# Altium integrated library SparkFun-Clocks.Library.IntLib: 60 symbols
Pins are listed as number, name and electrical type; pins without a type are passive.

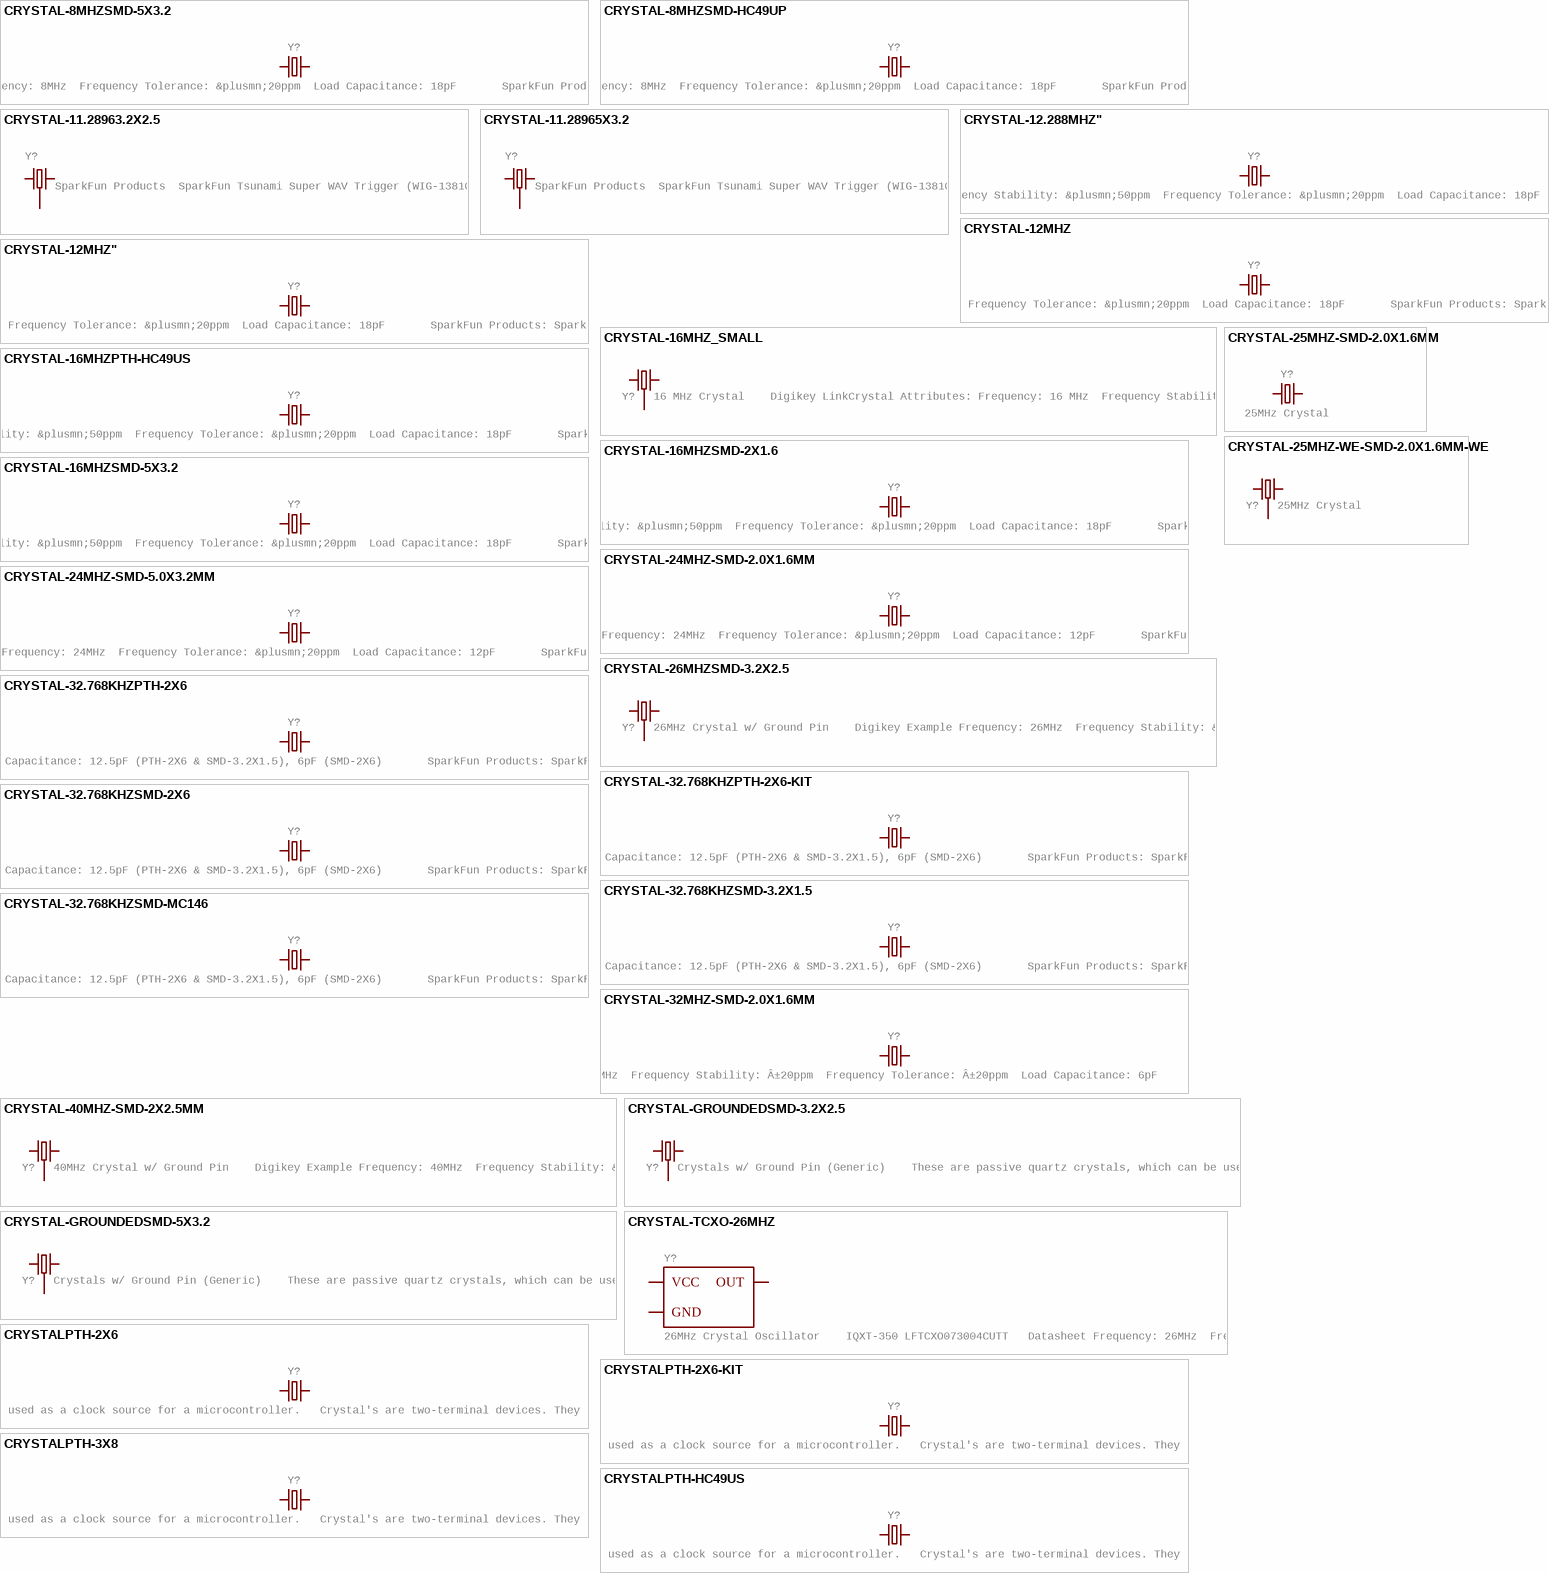
[diagram p0: symbols CRYSTAL-8MHZSMD-5X3.2 to CRYSTALPTH-HC49US]

## CRYSTAL-8MHZSMD-5X3.2
designator Y?, comment 8MHz Crystal    Datasheet Example Frequency: 8MHz  Frequency Tolerance: &plusmn;20ppm  Load Capacitance: 18pF       SparkFun Products: Pro Micro -3.3V/8MHz  WAV Trigger
GateName_1: G$1; DeviceName: SMD-5X3.2; DeviceSetName: CRYSTAL-8MHZ; PROD_ID: XTAL-09431; SymbolName_1: CRYSTAL; LibraryName: SparkFun-Clocks; Package: CRYSTAL-SMD-5X3.2-4PAD
footprint CRYSTAL-SMD-5X3.2-4PAD
pins: 1, 3 2

## CRYSTAL-8MHZSMD-HC49UP
designator Y?, comment 8MHz Crystal    Datasheet Example Frequency: 8MHz  Frequency Tolerance: &plusmn;20ppm  Load Capacitance: 18pF       SparkFun Products: Pro Micro -3.3V/8MHz  WAV Trigger
GateName_1: G$1; DeviceName: SMD-HC49UP; DeviceSetName: CRYSTAL-8MHZ; PROD_ID: XTAL-11706; SymbolName_1: CRYSTAL; LibraryName: SparkFun-Clocks; Package: HC49UP
footprint HC49UP
pins: 1, 2

## CRYSTAL-11.28963.2X2.5
designator Y?, comment SparkFun Products  SparkFun Tsunami Super WAV Trigger (WIG-13810)
MFR: GEYER; MRFPART: 12.60421; GateName_1: G$1; SymbolName_1: CRYSTAL-GND-1; DeviceName: 3.2X2.5; DeviceSetName: CRYSTAL-11.2896; MODEL: KX-7T; PROD_ID: XTAL-16991; LibraryName: SparkFun-Clocks; Package: CRYSTAL-SMD-3.2X2.5MM_GEYER_12.60421
footprint CRYSTAL-SMD-3.2X2.5MM_GEYER_12.60421
pins: 1, 2,4 3, 3 2

## CRYSTAL-11.28965X3.2
designator Y?, comment SparkFun Products  SparkFun Tsunami Super WAV Trigger (WIG-13810)
DKPART: 887-2353-1-ND; MFR: txc; MFRPART: 7B-11.2896MAAE-T; GateName_1: G$1; SymbolName_1: CRYSTAL-GND-1; DeviceName: 5X3.2; DeviceSetName: CRYSTAL-11.2896; PROD_ID: XTAL-13463; LibraryName: SparkFun-Clocks; Package: CRYSTAL-OSC-SMD-5X3
footprint CRYSTAL-OSC-SMD-5X3
pins: 1, 2,4 3, 3 2

## CRYSTAL-12.288MHZ"
designator Y?, comment 12.288MHz Crystal    Digikey Example Frequency: 12.288MHz  Frequency Stability: &plusmn;50ppm  Frequency Tolerance: &plusmn;20ppm  Load Capacitance: 18pF       SparkFun Products: MP3 Trigger  SparkFun MP3 Player Shield
GateName_1: G$1; DeviceName: "; DeviceSetName: CRYSTAL-12.288MHZ; PROD_ID: XTAL-09653; SymbolName_1: CRYSTAL; LibraryName: SparkFun-Clocks; Package: CRYSTAL-SMD-5X3.2-4PAD
footprint CRYSTAL-SMD-5X3.2-4PAD
pins: 1, 3 2

## CRYSTAL-12MHZ
designator Y?, comment 12.0MHz Crystal  Frequency: 12.0MHz  Frequency Tolerance: &plusmn;20ppm  Load Capacitance: 18pF       SparkFun Products: SparkFun Logomatic  Pocket AVR Programmer
GateName_1: G$1; DeviceSetName: CRYSTAL-12MHZ; PROD_ID: XTAL-15540; SymbolName_1: CRYSTAL; LibraryName: SparkFun-Clocks; Package: CRYSTAL-SMD-2X2.5MM
footprint CRYSTAL-SMD-2X2.5MM
pins: P1 1, P3 2

## CRYSTAL-12MHZ"
designator Y?, comment 12.0MHz Crystal  Frequency: 12.0MHz  Frequency Tolerance: &plusmn;20ppm  Load Capacitance: 18pF       SparkFun Products: SparkFun Logomatic  Pocket AVR Programmer
GateName_1: G$1; DeviceName: "; DeviceSetName: CRYSTAL-12MHZ; PROD_ID: XTAL-08297; SymbolName_1: CRYSTAL; LibraryName: SparkFun-Clocks; Package: CRYSTAL-SMD-5X3.2-4PAD
footprint CRYSTAL-SMD-5X3.2-4PAD
pins: 1, 3 2

## CRYSTAL-16MHZ_SMALL
designator Y?, comment 16 MHz Crystal    Digikey LinkCrystal Attributes: Frequency: 16 MHz  Frequency Stability: +/- 10ppm  Frequency Tolerance: +/- 10ppm  Load Capacitance: 8pF  ESR: 80 Ohms  Operating Mode: Fundamental  PAD 2 and PAD 4 are GROUNDED
GateName_1: G$1; SymbolName_1: CRYSTAL-GND; DeviceSetName: CRYSTAL-16MHZ_SMALL; PROD_ID: XTAL-14664; LibraryName: SparkFun-Clocks; Package: CRYSTAL-SMD-2X2.5MM
footprint CRYSTAL-SMD-2X2.5MM
pins: P1 1, P2,4 GND (power), P3 2

## CRYSTAL-16MHZPTH-HC49US
designator Y?, comment 16MHz Crystal    Digikey Example Frequency: 16MHz  Frequency Stability: &plusmn;50ppm  Frequency Tolerance: &plusmn;20ppm  Load Capacitance: 18pF       SparkFun Products: Pro Micro -5V/16MHz  SparkFun Serial Enabled LCD Kit
GateName_1: G$1; DeviceName: PTH-HC49US; DeviceSetName: CRYSTAL-16MHZ; PROD_ID: XTAL-08181; SF_ID: COM-00536; SymbolName_1: CRYSTAL; LibraryName: SparkFun-Clocks; Package: HC49US
footprint HC49US
pins: 1, 2

## CRYSTAL-16MHZSMD-2X1.6
designator Y?, comment 16MHz Crystal    Digikey Example Frequency: 16MHz  Frequency Stability: &plusmn;50ppm  Frequency Tolerance: &plusmn;20ppm  Load Capacitance: 18pF       SparkFun Products: Pro Micro -5V/16MHz  SparkFun Serial Enabled LCD Kit
GateName_1: G$1; DeviceName: SMD-2X1.6; DeviceSetName: CRYSTAL-16MHZ; PROD_ID: XTAL-14681; SymbolName_1: CRYSTAL; LibraryName: SparkFun-Clocks; Package: CRYSTAL-SMD-2.0X1.6MM
footprint CRYSTAL-SMD-2.0X1.6MM
pins: 1, 3 2

## CRYSTAL-16MHZSMD-5X3.2
designator Y?, comment 16MHz Crystal    Digikey Example Frequency: 16MHz  Frequency Stability: &plusmn;50ppm  Frequency Tolerance: &plusmn;20ppm  Load Capacitance: 18pF       SparkFun Products: Pro Micro -5V/16MHz  SparkFun Serial Enabled LCD Kit
GateName_1: G$1; DeviceName: SMD-5X3.2; DeviceSetName: CRYSTAL-16MHZ; PROD_ID: XTAL-08218; SF_ID: COM-00094; SymbolName_1: CRYSTAL; LibraryName: SparkFun-Clocks; Package: CRYSTAL-SMD-5X3.2-4PAD
footprint CRYSTAL-SMD-5X3.2-4PAD
pins: 1, 3 2

## CRYSTAL-24MHZ-SMD-2.0X1.6MM
designator Y?, comment 24MHz Crystal    Datasheet Frequency: 24MHz  Frequency Tolerance: &plusmn;20ppm  Load Capacitance: 12pF       SparkFun Products: USB Bit Whacker
GateName_1: G$1; DeviceName: -SMD-2.0X1.6MM; DeviceSetName: CRYSTAL-24MHZ; PROD_ID: XTAL-14845; SymbolName_1: CRYSTAL; LibraryName: SparkFun-Clocks; Package: CRYSTAL-SMD-2.0X1.6MM
footprint CRYSTAL-SMD-2.0X1.6MM
pins: 1, 3 2

## CRYSTAL-24MHZ-SMD-5.0X3.2MM
designator Y?, comment 24MHz Crystal    Datasheet Frequency: 24MHz  Frequency Tolerance: &plusmn;20ppm  Load Capacitance: 12pF       SparkFun Products: USB Bit Whacker
GateName_1: G$1; DeviceName: -SMD-5.0X3.2MM; DeviceSetName: CRYSTAL-24MHZ; PROD_ID: XTAL-08298; SF_ID: COM-08581; SymbolName_1: CRYSTAL; LibraryName: SparkFun-Clocks; Package: CRYSTAL-SMD-5X3.2-4PAD
footprint CRYSTAL-SMD-5X3.2-4PAD
pins: 1, 3 2

## CRYSTAL-25MHZ-SMD-2.0X1.6MM
designator Y?, comment 25MHz Crystal
GateName_1: Y1; DeviceName: -SMD-2.0X1.6MM; DeviceSetName: CRYSTAL-25MHZ; PROD_ID: XTAL-16235; SymbolName_1: CRYSTAL; LibraryName: SparkFun-Clocks; Package: CRYSTAL-SMD-2.0X1.6MM
footprint CRYSTAL-SMD-2.0X1.6MM
pins: 1, 3 2

## CRYSTAL-25MHZ-WE-SMD-2.0X1.6MM-WE
designator Y?, comment 25MHz Crystal
GateName_1: G$1; SymbolName_1: CRYSTAL-GND; DeviceName: -SMD-2.0X1.6MM-WE; DeviceSetName: CRYSTAL-25MHZ-WE; PROD_ID: XTAL-16515; LibraryName: SparkFun-Clocks; Package: CRYSTAL-SMD-2.0X1.6MM-WE
footprint CRYSTAL-SMD-2.0X1.6MM-WE
pins: 1, 2,4 GND (power), 3 2

## CRYSTAL-26MHZSMD-3.2X2.5
designator Y?, comment 26MHz Crystal w/ Ground Pin    Digikey Example Frequency: 26MHz  Frequency Stability: &plusmn;9ppm  Frequency Tolerance: &plusmn;10ppm  Load Capacitance: 9pF       SparkFun Products: SparkFun ESP32 Thing  SparkFun ESP8266 Thing Dev Board
GateName_1: G$1; SymbolName_1: CRYSTAL-GND; DeviceName: SMD-3.2X2.5; DeviceSetName: CRYSTAL-26MHZ; PROD_ID: XTAL-12454; LibraryName: SparkFun-Clocks; Package: CRYSTAL-SMD-3.2X2.5MM
footprint CRYSTAL-SMD-3.2X2.5MM
pins: 1, 2,4 GND (power), 3 2

## CRYSTAL-32.768KHZPTH-2X6
designator Y?, comment 32.768kHz Crystal  Frequency: 32.768kHz  Frequency Stability: &plusmn;20ppm  Load Capacitance: 12.5pF (PTH-2X6 & SMD-3.2X1.5), 6pF (SMD-2X6)       SparkFun Products: SparkFun BigTime Watch Kit  SparkFun nRF52832 Breakout  SparkFun Real Time Clock Module
GateName_1: G$1; DeviceSetName: CRYSTAL-32.768KHZ; PROD_ID: XTAL-10112; SymbolName_1: CRYSTAL; DeviceName: PTH-2X6; LibraryName: SparkFun-Clocks; Package: CRYSTAL-PTH-2X6-CYL
footprint CRYSTAL-PTH-2X6-CYL
pins: 1, 2

## CRYSTAL-32.768KHZPTH-2X6-KIT
designator Y?, comment 32.768kHz Crystal  Frequency: 32.768kHz  Frequency Stability: &plusmn;20ppm  Load Capacitance: 12.5pF (PTH-2X6 & SMD-3.2X1.5), 6pF (SMD-2X6)       SparkFun Products: SparkFun BigTime Watch Kit  SparkFun nRF52832 Breakout  SparkFun Real Time Clock Module
GateName_1: G$1; DeviceName: PTH-2X6-KIT; DeviceSetName: CRYSTAL-32.768KHZ; PROD_ID: XTAL-10112; SymbolName_1: CRYSTAL; LibraryName: SparkFun-Clocks; Package: CRYSTAL-PTH-2X6-CYL-KIT
footprint CRYSTAL-PTH-2X6-CYL-KIT
pins: 1, 2

## CRYSTAL-32.768KHZSMD-2X6
designator Y?, comment 32.768kHz Crystal  Frequency: 32.768kHz  Frequency Stability: &plusmn;20ppm  Load Capacitance: 12.5pF (PTH-2X6 & SMD-3.2X1.5), 6pF (SMD-2X6)       SparkFun Products: SparkFun BigTime Watch Kit  SparkFun nRF52832 Breakout  SparkFun Real Time Clock Module
GateName_1: G$1; DeviceSetName: CRYSTAL-32.768KHZ; PROD_ID: XTAL-07894; SymbolName_1: CRYSTAL; DeviceName: SMD-2X6; LibraryName: SparkFun-Clocks; Package: CRYSTAL-SMD-2X6-CYL
footprint CRYSTAL-SMD-2X6-CYL
pins: X1 1, X2 2

## CRYSTAL-32.768KHZSMD-3.2X1.5
designator Y?, comment 32.768kHz Crystal  Frequency: 32.768kHz  Frequency Stability: &plusmn;20ppm  Load Capacitance: 12.5pF (PTH-2X6 & SMD-3.2X1.5), 6pF (SMD-2X6)       SparkFun Products: SparkFun BigTime Watch Kit  SparkFun nRF52832 Breakout  SparkFun Real Time Clock Module
GateName_1: G$1; DeviceSetName: CRYSTAL-32.768KHZ; PROD_ID: XTAL-13062; SymbolName_1: CRYSTAL; DeviceName: SMD-3.2X1.5; LibraryName: SparkFun-Clocks; Package: CRYSTAL-SMD-3.2X1.5MM
footprint CRYSTAL-SMD-3.2X1.5MM
pins: P$1 1, P$2 2

## CRYSTAL-32.768KHZSMD-MC146
designator Y?, comment 32.768kHz Crystal  Frequency: 32.768kHz  Frequency Stability: &plusmn;20ppm  Load Capacitance: 12.5pF (PTH-2X6 & SMD-3.2X1.5), 6pF (SMD-2X6)       SparkFun Products: SparkFun BigTime Watch Kit  SparkFun nRF52832 Breakout  SparkFun Real Time Clock Module
GateName_1: G$1; DeviceName: SMD-MC146; DeviceSetName: CRYSTAL-32.768KHZ; PROD_ID: XTAL-09342; SymbolName_1: CRYSTAL; LibraryName: SparkFun-Clocks; Package: CRYSTAL-SMD-MC-146
footprint CRYSTAL-SMD-MC-146
pins: P$1 2, P$2 1

## CRYSTAL-32MHZ-SMD-2.0X1.6MM
designator Y?, comment 32MHz Crystal    Digikey Example Frequency: 32MHz  Frequency Stability: Â±20ppm  Frequency Tolerance: Â±20ppm  Load Capacitance: 6pF       SparkFun Products SparkFun nRF52832 Breakout
GateName_1: G$1; DeviceName: -SMD-2.0X1.6MM; DeviceSetName: CRYSTAL-32MHZ; PROD_ID: XTAL-13459; SymbolName_1: CRYSTAL; LibraryName: SparkFun-Clocks; Package: CRYSTAL-SMD-2.0X1.6MM
footprint CRYSTAL-SMD-2.0X1.6MM
pins: 1, 3 2

## CRYSTAL-40MHZ-SMD-2X2.5MM
designator Y?, comment 40MHz Crystal w/ Ground Pin    Digikey Example Frequency: 40MHz  Frequency Stability: &plusmn;10ppm  Frequency Tolerance: &plusmn;10ppm  Load Capacitance: 10pF
GateName_1: G$1; SymbolName_1: CRYSTAL-GND; DeviceName: -SMD-2X2.5MM; DeviceSetName: CRYSTAL-40MHZ; PROD_ID: XTAL-15127; LibraryName: SparkFun-Clocks; Package: CRYSTAL-SMD-2X2.5MM
footprint CRYSTAL-SMD-2X2.5MM
pins: P1 1, P2,4 GND (power), P3 2

## CRYSTAL-GROUNDEDSMD-3.2X2.5
designator Y?, comment Crystals w/ Ground Pin (Generic)    These are passive quartz crystals, which can be used as a clock source for a microcontroller.   Crystal's are usually two-terminal devices. A third terminal may be optionally connected to ground, as recommended by the manufaturer.
GateName_1: G$1; SymbolName_1: CRYSTAL-GND; DeviceName: SMD-3.2X2.5; DeviceSetName: CRYSTAL-GROUNDED; PROD_ID: XTAL-13518; LibraryName: SparkFun-Clocks; Package: CRYSTAL-SMD-3.2X2.5MM
footprint CRYSTAL-SMD-3.2X2.5MM
pins: 1, 2,4 GND (power), 3 2

## CRYSTAL-GROUNDEDSMD-5X3.2
designator Y?, comment Crystals w/ Ground Pin (Generic)    These are passive quartz crystals, which can be used as a clock source for a microcontroller.   Crystal's are usually two-terminal devices. A third terminal may be optionally connected to ground, as recommended by the manufaturer.
GateName_1: G$1; SymbolName_1: CRYSTAL-GND; DeviceName: SMD-5X3.2; DeviceSetName: CRYSTAL-GROUNDED; LibraryName: SparkFun-Clocks; Package: CRYSTAL-SMD-5X3.2-4PAD
footprint CRYSTAL-SMD-5X3.2-4PAD
pins: 1 2, 2,4 GND (power), 3 1

## CRYSTAL-TCXO-26MHZ
designator Y?, comment 26MHz Crystal Oscillator    IQXT-350 LFTCXO073004CUTT   Datasheet Frequency: 26MHz  Frequency Stability: &plusmn;0.50ppm  Frequency Tolerance: &plusmn;1.50ppm
GateName_1: G$1; SymbolName_1: CRYSTAL-TCXO; DeviceSetName: CRYSTAL-TCXO-26MHZ; PROD_ID: XTAL-15279; LibraryName: SparkFun-Clocks; Package: CRYSTAL-TCXO-SMD-1.65X1.25; MOUSER_PART: 449-LFTCXO073004CUTT
footprint CRYSTAL-TCXO-SMD-1.65X1.25
pins: 1,2 GND (io), 3 OUT (io), 4 VCC (io)

## CRYSTALPTH-2X6
designator Y?, comment Crystals (Generic)    These are passive quartz crystals, which can be used as a clock source for a microcontroller.   Crystal's are two-terminal devices. They require external "load" capacitors to generate an oscillating signal.
GateName_1: G$1; DeviceName: PTH-2X6; SymbolName_1: CRYSTAL; LibraryName: SparkFun-Clocks; DeviceSetName: CRYSTAL; Package: CRYSTAL-PTH-2X6-CYL
footprint CRYSTAL-PTH-2X6-CYL
pins: 1, 2

## CRYSTALPTH-2X6-KIT
designator Y?, comment Crystals (Generic)    These are passive quartz crystals, which can be used as a clock source for a microcontroller.   Crystal's are two-terminal devices. They require external "load" capacitors to generate an oscillating signal.
GateName_1: G$1; DeviceName: PTH-2X6-KIT; SymbolName_1: CRYSTAL; LibraryName: SparkFun-Clocks; DeviceSetName: CRYSTAL; Package: CRYSTAL-PTH-2X6-CYL-KIT
footprint CRYSTAL-PTH-2X6-CYL-KIT
pins: 1, 2

## CRYSTALPTH-3X8
designator Y?, comment Crystals (Generic)    These are passive quartz crystals, which can be used as a clock source for a microcontroller.   Crystal's are two-terminal devices. They require external "load" capacitors to generate an oscillating signal.
GateName_1: G$1; DeviceName: PTH-3X8; SymbolName_1: CRYSTAL; LibraryName: SparkFun-Clocks; DeviceSetName: CRYSTAL; Package: CRYSTAL-PTH-3X8-CYL
footprint CRYSTAL-PTH-3X8-CYL
pins: 1, 2

## CRYSTALPTH-HC49US
designator Y?, comment Crystals (Generic)    These are passive quartz crystals, which can be used as a clock source for a microcontroller.   Crystal's are two-terminal devices. They require external "load" capacitors to generate an oscillating signal.
GateName_1: G$1; DeviceName: PTH-HC49US; SymbolName_1: CRYSTAL; LibraryName: SparkFun-Clocks; DeviceSetName: CRYSTAL; Package: HC49US
footprint HC49US
pins: 1, 2

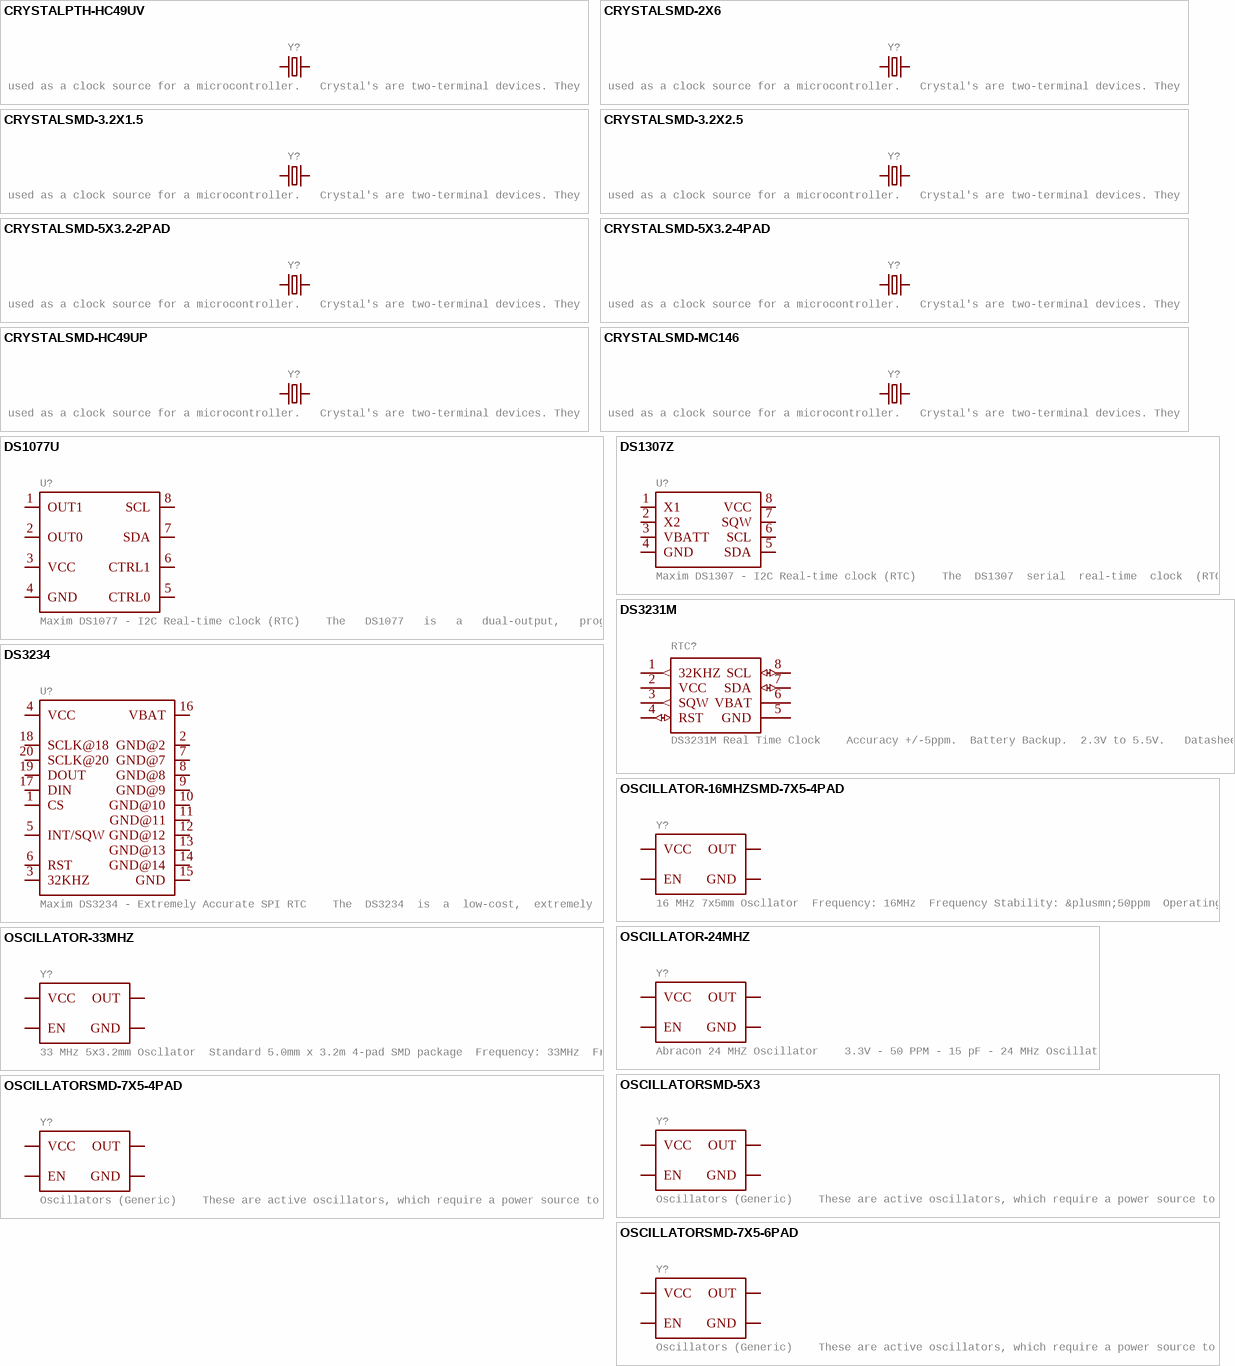
[diagram p1: symbols CRYSTALPTH-HC49UV to OSCILLATORSMD-7X5-6PAD]

## CRYSTALPTH-HC49UV
designator Y?, comment Crystals (Generic)    These are passive quartz crystals, which can be used as a clock source for a microcontroller.   Crystal's are two-terminal devices. They require external "load" capacitors to generate an oscillating signal.
GateName_1: G$1; DeviceName: PTH-HC49UV; SymbolName_1: CRYSTAL; LibraryName: SparkFun-Clocks; DeviceSetName: CRYSTAL; Package: HC49U
footprint HC49U
pins: 1, 2

## CRYSTALSMD-2X6
designator Y?, comment Crystals (Generic)    These are passive quartz crystals, which can be used as a clock source for a microcontroller.   Crystal's are two-terminal devices. They require external "load" capacitors to generate an oscillating signal.
GateName_1: G$1; DeviceName: SMD-2X6; SymbolName_1: CRYSTAL; LibraryName: SparkFun-Clocks; DeviceSetName: CRYSTAL; Package: CRYSTAL-SMD-2X6-CYL
footprint CRYSTAL-SMD-2X6-CYL
pins: X1 1, X2 2

## CRYSTALSMD-3.2X1.5
designator Y?, comment Crystals (Generic)    These are passive quartz crystals, which can be used as a clock source for a microcontroller.   Crystal's are two-terminal devices. They require external "load" capacitors to generate an oscillating signal.
GateName_1: G$1; DeviceName: SMD-3.2X1.5; SymbolName_1: CRYSTAL; LibraryName: SparkFun-Clocks; DeviceSetName: CRYSTAL; Package: CRYSTAL-SMD-3.2X1.5MM
footprint CRYSTAL-SMD-3.2X1.5MM
pins: P$1 1, P$2 2

## CRYSTALSMD-3.2X2.5
designator Y?, comment Crystals (Generic)    These are passive quartz crystals, which can be used as a clock source for a microcontroller.   Crystal's are two-terminal devices. They require external "load" capacitors to generate an oscillating signal.
GateName_1: G$1; DeviceName: SMD-3.2X2.5; SymbolName_1: CRYSTAL; LibraryName: SparkFun-Clocks; DeviceSetName: CRYSTAL; Package: CRYSTAL-SMD-3.2X2.5MM
footprint CRYSTAL-SMD-3.2X2.5MM
pins: 1, 3 2

## CRYSTALSMD-5X3.2-2PAD
designator Y?, comment Crystals (Generic)    These are passive quartz crystals, which can be used as a clock source for a microcontroller.   Crystal's are two-terminal devices. They require external "load" capacitors to generate an oscillating signal.
GateName_1: G$1; DeviceName: SMD-5X3.2-2PAD; SymbolName_1: CRYSTAL; LibraryName: SparkFun-Clocks; DeviceSetName: CRYSTAL; Package: CRYSTAL-SMD-5X3.2-2PAD
footprint CRYSTAL-SMD-5X3.2-2PAD
pins: P$1 1, P$2 2

## CRYSTALSMD-5X3.2-4PAD
designator Y?, comment Crystals (Generic)    These are passive quartz crystals, which can be used as a clock source for a microcontroller.   Crystal's are two-terminal devices. They require external "load" capacitors to generate an oscillating signal.
GateName_1: G$1; DeviceName: SMD-5X3.2-4PAD; SymbolName_1: CRYSTAL; LibraryName: SparkFun-Clocks; DeviceSetName: CRYSTAL; Package: CRYSTAL-SMD-5X3.2-4PAD
footprint CRYSTAL-SMD-5X3.2-4PAD
pins: 1, 3 2

## CRYSTALSMD-HC49UP
designator Y?, comment Crystals (Generic)    These are passive quartz crystals, which can be used as a clock source for a microcontroller.   Crystal's are two-terminal devices. They require external "load" capacitors to generate an oscillating signal.
GateName_1: G$1; DeviceName: SMD-HC49UP; SymbolName_1: CRYSTAL; LibraryName: SparkFun-Clocks; DeviceSetName: CRYSTAL; Package: HC49UP
footprint HC49UP
pins: 1, 2

## CRYSTALSMD-MC146
designator Y?, comment Crystals (Generic)    These are passive quartz crystals, which can be used as a clock source for a microcontroller.   Crystal's are two-terminal devices. They require external "load" capacitors to generate an oscillating signal.
GateName_1: G$1; DeviceName: SMD-MC146; SymbolName_1: CRYSTAL; LibraryName: SparkFun-Clocks; DeviceSetName: CRYSTAL; Package: CRYSTAL-SMD-MC-146
footprint CRYSTAL-SMD-MC-146
pins: P$1 2, P$2 1

## DS1077U
designator U?, comment Maxim DS1077 - I2C Real-time clock (RTC)    The   DS1077   is   a   dual-output,   programmable,   fixed-frequency   oscillator   requiring   no   external   components for operation. The DS1077 can be used as a processor-controlled frequency synthesizer or as  a  standalone  oscillator.   The  DS1077  features  a  2-wire  serial  interface  that  allows  in-circuit  on-the-fly  programming  of the  programmable  prescalers  (P0  &  P1)  and  divider  (N)  with  the  desired  values  being  stored  in  NV  (EEPROM)   memory.   SparkFun Products:  Real Time Clock Module (BOB-00099)       Datasheet
GateName_1: G$1; DeviceName: U; PROD_ID: IC-09075; SymbolName_1: DS1077; LibraryName: SparkFun-Clocks; DeviceSetName: DS1077; Package: SO08-0.15
footprint SO08-0.15
pins: 1 OUT1 (io), 2 OUT0 (io), 3 VCC (io), 4 GND (io), 5 CTRL0 (io), 6 CTRL1 (io), 7 SDA (io), 8 SCL (io)

## DS1307Z
designator U?, comment Maxim DS1307 - I2C Real-time clock (RTC)    The  DS1307  serial  real-time  clock  (RTC)  is  a  low-power, full binary-coded decimal (BCD) clock/calendar plus  56  bytes  of  NV  SRAM.  Address  and  data  are transferred  serially  through  an  I2C,  bidirectional  bus. The clock/calendar provides seconds, minutes, hours, day,  date,  month,  and  year  information.   SparkFun Products:  Real Time Clock Module (BOB-12708)       Datasheet
GateName_1: G$1; DeviceName: Z; PROD_ID: IC-08138; SymbolName_1: DS1307; LibraryName: SparkFun-Clocks; DeviceSetName: DS1307; Package: SO08-0.15
footprint SO08-0.15
pins: 1 X1 (io), 2 X2 (io), 3 VBATT (io), 4 GND (io), 5 SDA (io), 6 SCL (io), 7 SQW (io), 8 VCC (io)

## DS3231M
designator RTC?, comment DS3231M Real Time Clock    Accuracy +/-5ppm.  Battery Backup.  2.3V to 5.5V.   Datasheet SparkFun Products  CryptoCape (DEV-12773)  SparkFun CryptoShield (DEV-13183)
GateName_1: G$1; PROD_ID: IC-11985; SymbolName_1: DS3231M; LibraryName: SparkFun-Clocks; DeviceSetName: DS3231M; Package: SO08
footprint SO08
pins: 1 32KHZ (out), 2 VCC (power), 3 SQW (out), 4 RST (io), 5 GND (power), 6 VBAT (power), 7 SDA (io), 8 SCL (io)

## DS3234
designator U?, comment Maxim DS3234 - Extremely Accurate SPI RTC    The  DS3234  is  a  low-cost,  extremely  accurate  SPIâ„¢  bus real-time clock (RTC) with an integrated temperature-compensated crystal oscillator (TCXO) and crystal.   SparkFun Products:  Real Time Clock - DS3234 (COM-10079)  SparkFun DeadOn RTC Breakout (BOB-10160)       Datasheet
GateName_1: G$1; PROD_ID: IC-10016; SymbolName_1: DS3234; LibraryName: SparkFun-Clocks; DeviceSetName: DS3234; Package: SO20-0.3; SF_ID: COM-10079
footprint SO20-0.3
pins: 1 CS (io), 2 GND@2 (io), 3 32KHZ (io), 4 VCC (io), 5 INT/SQW (io), 6 RST (io), 7 GND@7 (io), 8 GND@8 (io), 9 GND@9 (io), 10 GND@10 (io), 11 GND@11 (io), 12 GND@12 (io), 13 GND@13 (io), 14 GND@14 (io), 15 GND (io), 16 VBAT (io), 17 DIN (io), 18 SCLK@18 (io), 19 DOUT (io), 20 SCLK@20 (io)

## OSCILLATOR-16MHZSMD-7X5-4PAD
designator Y?, comment 16 MHz 7x5mm Oscllator  Frequency: 16MHz  Frequency Stability: &plusmn;50ppm  Operating Voltage: 3.3V        Datasheet Example SparkFun MiniGen
GateName_1: G$1; SymbolName_1: OSCILLATOR; DeviceName: SMD-7X5-4PAD; DeviceSetName: OSCILLATOR-16MHZ; PROD_ID: XTAL-11225; LibraryName: SparkFun-Clocks; Package: OSCILLATOR-SMD-7X5-4PAD
footprint OSCILLATOR-SMD-7X5-4PAD
pins: 1 EN (io), 2 GND (io), 3 OUT (io), 4 VCC (io)

## OSCILLATOR-24MHZ
designator Y?, comment Abracon 24 MHZ Oscillator    3.3V - 50 PPM - 15 pF - 24 MHz Oscillator
GateName_1: G$1; DeviceSetName: OSCILLATOR-24MHZ; PROD_ID: XTAL-14907; SymbolName_1: OSCILLATOR; LibraryName: SparkFun-Clocks; Package: RESONATOR-SMD-3.2X2.5
footprint RESONATOR-SMD-3.2X2.5
pins: 1 EN (io), 2 GND (io), 3 OUT (io), 4 VCC (io)

## OSCILLATOR-33MHZ
designator Y?, comment 33 MHz 5x3.2mm Oscllator  Standard 5.0mm x 3.2m 4-pad SMD package  Frequency: 33MHz  Frequency Stability: &plusmn;50ppm  Operating Voltage: 3.3V       Example datasheet    SparkFun Products: SparkFun CryptoCape
GateName_1: G$1; SymbolName_1: OSCILLATOR; DeviceSetName: OSCILLATOR-33MHZ; PROD_ID: XTAL-11986; LibraryName: SparkFun-Clocks; Package: OSCILLATOR-SMD-5X3.2
footprint OSCILLATOR-SMD-5X3.2
pins: 1 EN (io), 2 GND (io), 3 OUT (io), 4 VCC (io)

## OSCILLATORSMD-5X3
designator Y?, comment Oscillators (Generic)    These are active oscillators, which require a power source to generate their clock output. Most oscillators are configured to generate a set frequency (e.g. 16MHz).   They have four pins: power, ground, output, and an enable input.
GateName_1: G$1; DeviceName: SMD-5X3; SymbolName_1: OSCILLATOR; LibraryName: SparkFun-Clocks; DeviceSetName: OSCILLATOR; Package: OSCILLATOR-SMD-5X3.2
footprint OSCILLATOR-SMD-5X3.2
pins: 1 EN (io), 2 GND (io), 3 OUT (io), 4 VCC (io)

## OSCILLATORSMD-7X5-4PAD
designator Y?, comment Oscillators (Generic)    These are active oscillators, which require a power source to generate their clock output. Most oscillators are configured to generate a set frequency (e.g. 16MHz).   They have four pins: power, ground, output, and an enable input.
GateName_1: G$1; DeviceName: SMD-7X5-4PAD; SymbolName_1: OSCILLATOR; LibraryName: SparkFun-Clocks; DeviceSetName: OSCILLATOR; Package: OSCILLATOR-SMD-7X5-4PAD
footprint OSCILLATOR-SMD-7X5-4PAD
pins: 1 EN (io), 2 GND (io), 3 OUT (io), 4 VCC (io)

## OSCILLATORSMD-7X5-6PAD
designator Y?, comment Oscillators (Generic)    These are active oscillators, which require a power source to generate their clock output. Most oscillators are configured to generate a set frequency (e.g. 16MHz).   They have four pins: power, ground, output, and an enable input.
GateName_1: G$1; DeviceName: SMD-7X5-6PAD; SymbolName_1: OSCILLATOR; LibraryName: SparkFun-Clocks; DeviceSetName: OSCILLATOR; Package: OSCILLATOR-SMD-7.5X5.2-6PIN
footprint OSCILLATOR-SMD-7.5X5.2-6PIN
pins: 1 EN (io), 2 GND (io), 3 OUT (io), 4 VCC (io)

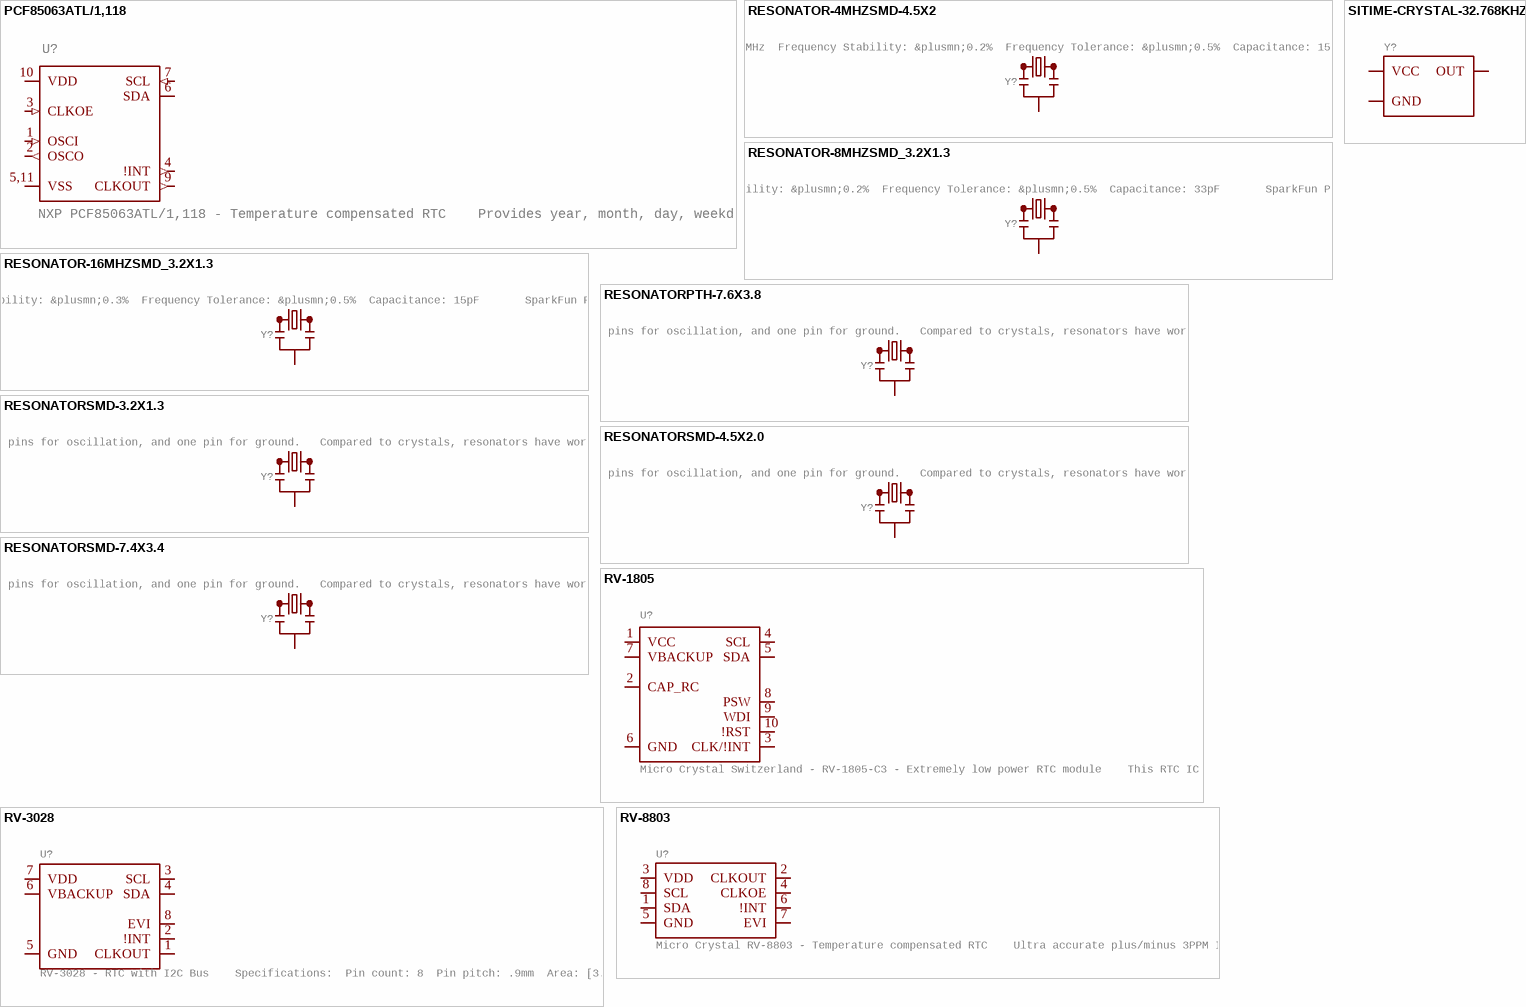
[diagram p2: symbols PCF85063ATL/1,118 to SITIME-CRYSTAL-32.768KHZ]

## PCF85063ATL/1,118
designator U?, comment NXP PCF85063ATL/1,118 - Temperature compensated RTC    Provides year, month, day, weekday, hours, minutes, and seconds based on a 32.768 kHz quartz crystal    Clock operating voltage: 0.9 V to 5.5 V     Low current; typical 0.22uA at VDD = 3.3 V and Tamb = 25C     400 kHz two-line I2C-bus interface (at VDD = 1.8 V to 5.5 V)    Programmable clock output for peripheral devices (32.768 kHz, 16.384 kHz, 8.192 kHz, 4.096 kHz, 2.048 kHz, 1.024 kHz, and 1 Hz)     Selectable integrated oscillator load capacitors for CL = 7 pF or CL = 12.5 pF     Alarm function     Countdown timer     Minute and half minute interrupt     Oscillator stop detection function     Internal Power-On Reset (POR)     Programmable offset register for frequency adjustment
GateName_1: G$1; PROD_ID: IC-15415; SymbolName_1: PCF85063ATL/1; LibraryName: SparkFun-Clocks; DeviceSetName: PCF85063ATL/1,118; Package: 10-DFN(2.6X2.6)
footprint 10-DFN(2.6X2.6)
pins: 1 OSCI (in), 2 OSCO (out), 3 CLKOE (in), 4 !INT (out), 5,11 VSS (power), 6 SDA (io), 7 SCL (in), 9 CLKOUT (out), 10 VDD (power)

## RESONATOR-4MHZSMD-4.5X2
designator Y?, comment 4MHz Resonator    Digikey Example Frequency: 4MHz  Frequency Stability: &plusmn;0.2%  Frequency Tolerance: &plusmn;0.5%  Capacitance: 15pF       SparkFun Products SparkFun BadgerHack
GateName_1: G$1; DeviceName: SMD-4.5X2; DeviceSetName: RESONATOR-4MHZ; PROD_ID: XTAL-12492; SymbolName_1: RESONATOR; LibraryName: SparkFun-Clocks; Package: RESONATOR-SMD-4.5X2.0
footprint RESONATOR-SMD-4.5X2.0
pins: 1, 2, 3

## RESONATOR-8MHZSMD_3.2X1.3
designator Y?, comment 8MHz Resonator    Digikey Example Frequency: 8MHz  Frequency Stability: &plusmn;0.2%  Frequency Tolerance: &plusmn;0.5%  Capacitance: 33pF       SparkFun Products Arduino Pro Mini 328- 3.3V/8MHz  SparkFun Digital Sandbox
GateName_1: G$1; DeviceName: SMD_3.2X1.3; DeviceSetName: RESONATOR-8MHZ; PROD_ID: XTAL-08895; SymbolName_1: RESONATOR; LibraryName: SparkFun-Clocks; Package: RESONATOR-SMD-3.2X1.3
footprint RESONATOR-SMD-3.2X1.3
pins: 1, 2, 3

## RESONATOR-16MHZSMD_3.2X1.3
designator Y?, comment 16MHz Resonator    Digikey Example Frequency: 16MHz  Frequency Stability: &plusmn;0.3%  Frequency Tolerance: &plusmn;0.5%  Capacitance: 15pF       SparkFun Products SparkFun OpenLog  SparkFun MicroView - OLED Arduino Module
GateName_1: G$1; DeviceName: SMD_3.2X1.3; DeviceSetName: RESONATOR-16MHZ; PROD_ID: XTAL-08900; SymbolName_1: RESONATOR; LibraryName: SparkFun-Clocks; Package: RESONATOR-SMD-3.2X1.3
footprint RESONATOR-SMD-3.2X1.3
pins: 1, 2, 3

## RESONATORPTH-7.6X3.8
designator Y?, comment Resonators (Generic)    Ceramic resonators are clock-generating components, often used to control timing in microcontrollers. They usually have 3 pins: two pins for oscillation, and one pin for ground.   Compared to crystals, resonators have worse tolerance, but are usually much cheaper. Plus, they have built-in load capacitors!   These devices are used on boards like the Arduino Pro 8MHz and Arduino Pro 16MHz.
GateName_1: G$1; DeviceName: PTH-7.6X3.8; SymbolName_1: RESONATOR; LibraryName: SparkFun-Clocks; DeviceSetName: RESONATOR; Package: RESONATOR-PTH-7.6X3.8
footprint RESONATOR-PTH-7.6X3.8
pins: 1, 2, 3

## RESONATORSMD-3.2X1.3
designator Y?, comment Resonators (Generic)    Ceramic resonators are clock-generating components, often used to control timing in microcontrollers. They usually have 3 pins: two pins for oscillation, and one pin for ground.   Compared to crystals, resonators have worse tolerance, but are usually much cheaper. Plus, they have built-in load capacitors!   These devices are used on boards like the Arduino Pro 8MHz and Arduino Pro 16MHz.
GateName_1: G$1; DeviceName: SMD-3.2X1.3; SymbolName_1: RESONATOR; LibraryName: SparkFun-Clocks; DeviceSetName: RESONATOR; Package: RESONATOR-SMD-3.2X1.3
footprint RESONATOR-SMD-3.2X1.3
pins: 1, 2, 3

## RESONATORSMD-4.5X2.0
designator Y?, comment Resonators (Generic)    Ceramic resonators are clock-generating components, often used to control timing in microcontrollers. They usually have 3 pins: two pins for oscillation, and one pin for ground.   Compared to crystals, resonators have worse tolerance, but are usually much cheaper. Plus, they have built-in load capacitors!   These devices are used on boards like the Arduino Pro 8MHz and Arduino Pro 16MHz.
GateName_1: G$1; DeviceName: SMD-4.5X2.0; SymbolName_1: RESONATOR; LibraryName: SparkFun-Clocks; DeviceSetName: RESONATOR; Package: RESONATOR-SMD-4.5X2.0
footprint RESONATOR-SMD-4.5X2.0
pins: 1, 2, 3

## RESONATORSMD-7.4X3.4
designator Y?, comment Resonators (Generic)    Ceramic resonators are clock-generating components, often used to control timing in microcontrollers. They usually have 3 pins: two pins for oscillation, and one pin for ground.   Compared to crystals, resonators have worse tolerance, but are usually much cheaper. Plus, they have built-in load capacitors!   These devices are used on boards like the Arduino Pro 8MHz and Arduino Pro 16MHz.
GateName_1: G$1; DeviceName: SMD-7.4X3.4; SymbolName_1: RESONATOR; LibraryName: SparkFun-Clocks; DeviceSetName: RESONATOR; Package: RESONATOR-SMD-7.4X3.4
footprint RESONATOR-SMD-7.4X3.4
pins: 1, 2, 3

## RV-1805
designator U?, comment Micro Crystal Switzerland - RV-1805-C3 - Extremely low power RTC module    This RTC IC has been specially designed for ultimate low current consumption of typically 60 nA @ VDD 3.0V for 32.768 kHz XTAL mode. Additionally, there is an RC-Mode consuming only 17nA and an autocalibrated RC-mode consuming 22nA which permits to operate this RTC module several hours at Backup Supply Voltage using low-cost MLCC. The very small SMT ceramic-package combines the 32.768 kHz crystal unit with the CMOS-based oscillator and real-time-clock IC.
GateName_1: U1; PROD_ID: IC-13900; SymbolName_1: RV-1805; LibraryName: SparkFun-Clocks; DeviceSetName: RV-1805; Package: RV-1805
footprint RV-1805
pins: 1 VCC (io), 2 CAP_RC (io), 3 CLK/!INT (io), 4 SCL (io), 5 SDA (io), 6 GND (io), 7 VBACKUP (io), 8 PSW (io), 9 WDI (io), 10 !RST (io)

## RV-3028
designator U?, comment RV-3028 - RTC with I2C Bus    Specifications:  Pin count: 8  Pin pitch: .9mm  Area: [3.2mm x 2.0mm]       Datasheet referenced for footprint
GateName_1: G$1; SymbolName_1: RV-4162-C7; PROD_ID: IC-14378; LibraryName: SparkFun-Clocks; DeviceSetName: RV-3028; Package: RV-3028
footprint RV-3028
pins: 1 CLKOUT (io), 2 !INT (io), 3 SCL (io), 4 SDA (io), 5 GND (io), 6 VBACKUP (io), 7 VDD (io), 8 EVI (io)

## RV-8803
designator U?, comment Micro Crystal RV-8803 - Temperature compensated RTC    Ultra accurate plus/minus 3PPM I2C RTC. Temperature compensated crystal for low drift
GateName_1: G$1; PROD_ID: IC-14828; SymbolName_1: RV-8803; LibraryName: SparkFun-Clocks; DeviceSetName: RV-8803; Package: RV-3028
footprint RV-3028
pins: 1 SDA (io), 2 CLKOUT (io), 3 VDD (io), 4 CLKOE (io), 5 GND (io), 6 !INT (io), 7 EVI (io), 8 SCL (io)

## SITIME-CRYSTAL-32.768KHZ
designator Y?
GateName_1: G$1; SymbolName_1: SITIME_CRYSTAL; DeviceSetName: SITIME-CRYSTAL-32.768KHZ; PROD_ID: XTAL-14578; LibraryName: SparkFun-Clocks; Package: CRYSTAL-SMD-2X1.2MM
footprint CRYSTAL-SMD-2X1.2MM
pins: 2 GND (io), 3 OUT (io), 4 VCC (io)